# Altium schematic symbol library Schlib_V1.SchLib: 5 symbols
Pins are listed as number, name and electrical type; pins without a type are passive.

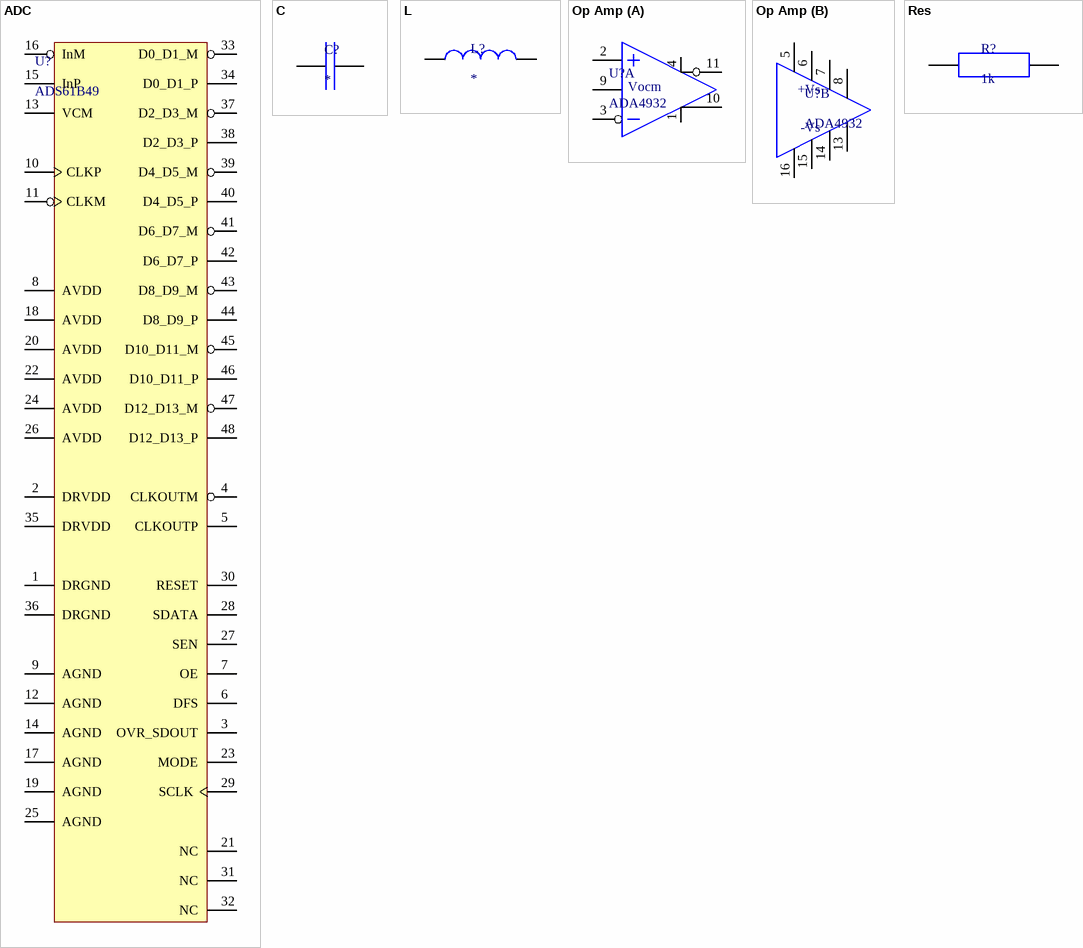
[diagram p0: symbols ADC to Res]

## ADC
designator U?, comment ADS61B49
footprint QFN 48 (QFN, 48-Leads, Body 7,00x7,00mm, Pitch 0,50mm, Thermal Pad 5,60x5,60mm, IPC Medium Density)
pins: 1 DRGND, 2 DRVDD, 3 OVR_SDOUT, 4 CLKOUTM, 5 CLKOUTP, 6 DFS, 7 OE, 8 AVDD, 9 AGND, 10 CLKP, 11 CLKM, 12 AGND, 13 VCM, 14 AGND, 15 InP, 16 InM, 17 AGND, 18 AVDD, 19 AGND, 20 AVDD, 21 NC, 22 AVDD, 23 MODE, 24 AVDD, 25 AGND, 26 AVDD, 27 SEN, 28 SDATA, 29 SCLK, 30 RESET, 31 NC, 32 NC, 33 D0_D1_M, 34 D0_D1_P, 35 DRVDD, 36 DRGND, 37 D2_D3_M, 38 D2_D3_P, 39 D4_D5_M, 40 D4_D5_P, 41 D6_D7_M, 42 D6_D7_P, 43 D8_D9_M, 44 D8_D9_P, 45 D10_D11_M, 46 D10_D11_P, 47 D12_D13_M, 48 D12_D13_P

## C
designator C?
footprint CAP_0603 (Chip Capacitor, 2-Leads, Body 1.6x0.8mm, IPC Medium Density)
pins: 1, 2

## L
designator L?
footprint RES_0603 (Chip Resistor, 2-Leads, Body 1,60x0,80mm, IPC Medium Density)
pins: 1, 2

## Op Amp
designator U?, comment ADA4932
footprint QFN PCP-16-2 (QFN, 16-Leads, Body 3,00x3,00mm, Pitch 0,45mm, Thermal Pad 1,30x1,30mm, IPC Medium Density)
part A pins: 1, 2, 3, 4, 9, 10, 11
part B pins: 5, 6, 7, 8, 13, 14, 15, 16
part A text: Vocm
part B text: +Vs; -Vs

## Res
designator R?, comment 1k
footprint RES_0603 (Chip Resistor, 2-Leads, Body 1,60x0,80mm, IPC Medium Density)
pins: 1, 2